# Altium schematic symbol library DSP_Microchip_DSPIC33.SchLib: 19 symbols
Pins are listed as number, name and electrical type; pins without a type are passive.

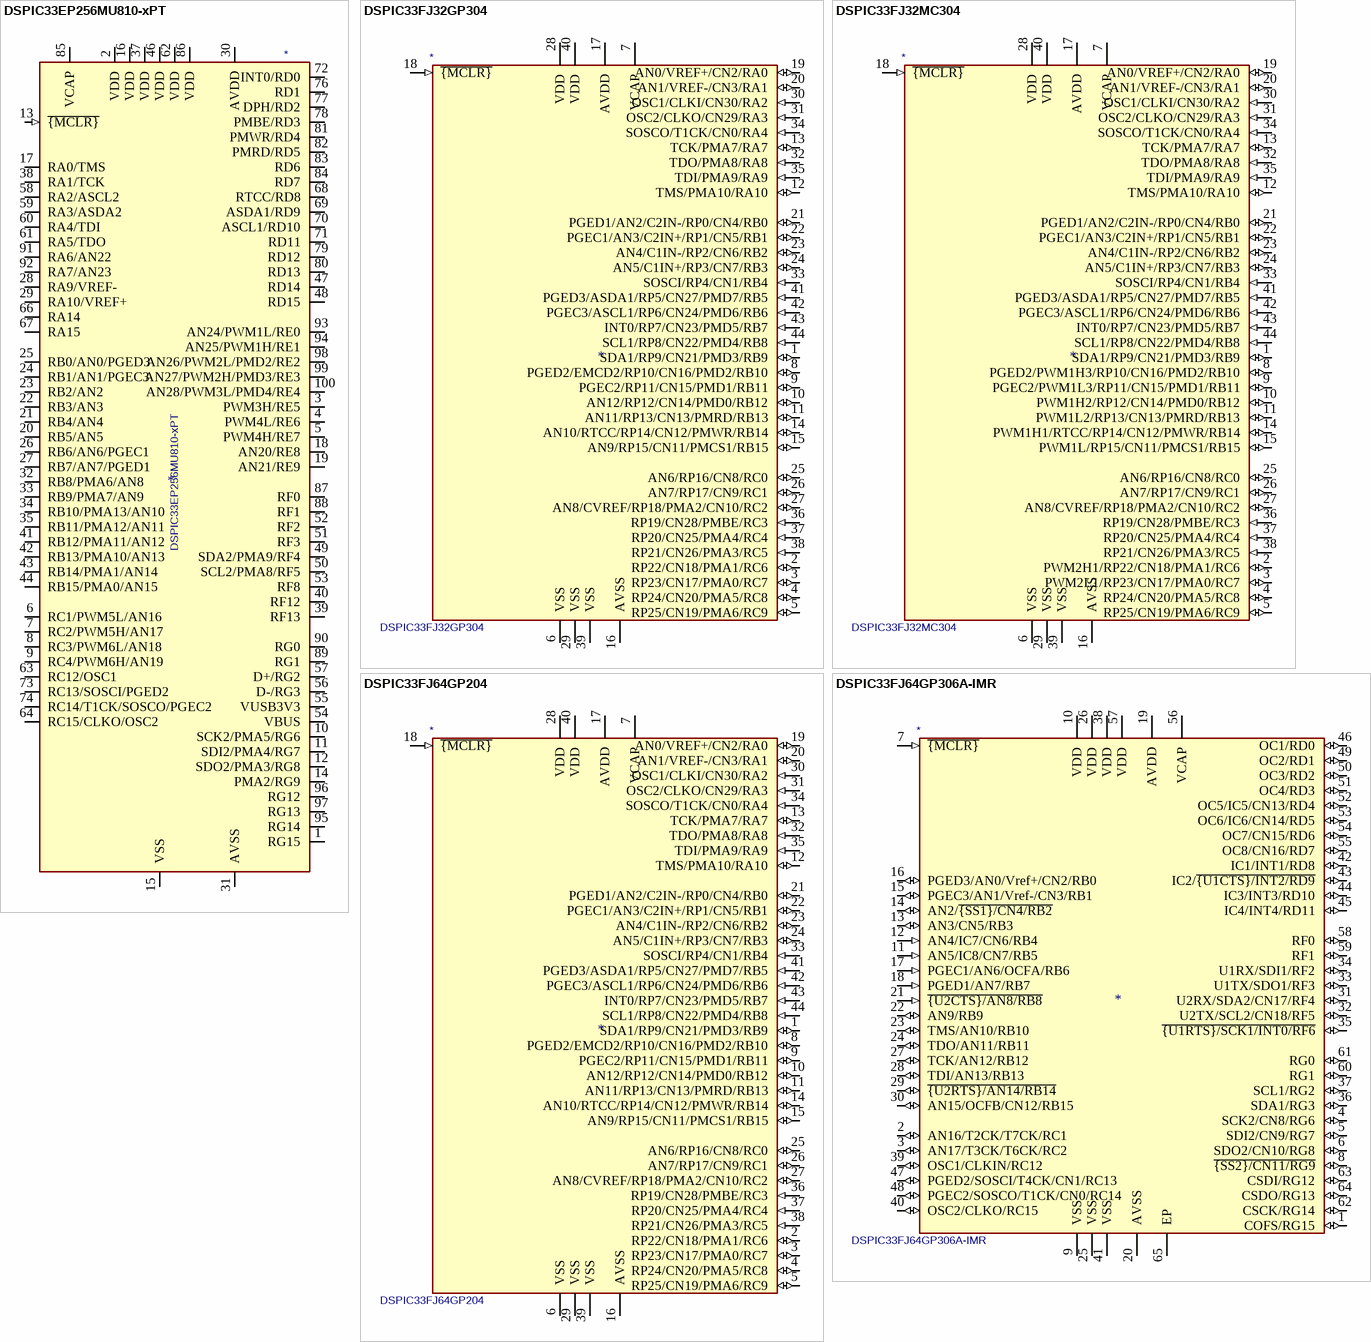
[diagram p0: symbols DSPIC33EP256MU810-xPT to DSPIC33FJ64GP306A-IMR]

## DSPIC33EP256MU810-xPT
designator *  value DSPIC33EP256MU810-xPT
ki_keywords: 16-bit Digital Signal Controller Microchip dsPIC; ki_description: High-Performance, 16-bit Digital Signal Controller, 40MIPS, 256k Flash, 30k SRAM, TQFP-100; ki_fp_filters: TQFP*14x14mm*P0.5mm*; Footprint: Package_QFP:TQFP-100_14x14mm_P0.5mm; Supplier: http://ww1.microchip.com/downloads/en/DeviceDoc/70616g.pdf
footprint TQFP-100_14x14mm_P0.5mm
pins: 1 RG15 (io), 2 VDD (power), 3 PWM3H/RE5 (io), 4 PWM4L/RE6 (io), 5 PWM4H/RE7 (io), 6 RC1/PWM5L/AN16 (io), 7 RC2/PWM5H/AN17 (io), 8 RC3/PWM6L/AN18 (io), 9 RC4/PWM6H/AN19 (io), 10 SCK2/PMA5/RG6 (io), 11 SDI2/PMA4/RG7 (io), 12 SDO2/PMA3/RG8 (io), 13 ~{{MCLR}} (in), 14 PMA2/RG9 (io), 15 VSS (power), 16 VDD (power), 17 RA0/TMS (io), 18 AN20/RE8 (io), 19 AN21/RE9 (io), 20 RB5/AN5 (io), 21 RB4/AN4 (io), 22 RB3/AN3 (io), 23 RB2/AN2 (io), 24 RB1/AN1/PGEC3 (io), 25 RB0/AN0/PGED3 (io), 26 RB6/AN6/PGEC1 (io), 27 RB7/AN7/PGED1 (io), 28 RA9/VREF- (io), 29 RA10/VREF+ (io), 30 AVDD (power), 31 AVSS (power), 32 RB8/PMA6/AN8 (io), 33 RB9/PMA7/AN9 (io), 34 RB10/PMA13/AN10 (io), 35 RB11/PMA12/AN11 (io), 36 VSS hidden, 37 VDD (power), 38 RA1/TCK (io), 39 RF13 (io), 40 RF12 (io), 41 RB12/PMA11/AN12 (io), 42 RB13/PMA10/AN13 (io), 43 RB14/PMA1/AN14 (io), 44 RB15/PMA0/AN15 (io), 45 VSS hidden, 46 VDD (power), 47 RD14 (io), 48 RD15 (io), 49 SDA2/PMA9/RF4 (io), 50 SCL2/PMA8/RF5 (io), 51 RF3 (io), 52 RF2 (io), 53 RF8 (io), 54 VBUS (io), 55 VUSB3V3 (io), 56 D-/RG3 (io), 57 D+/RG2 (io), 58 RA2/ASCL2 (io), 59 RA3/ASDA2 (io), 60 RA4/TDI (io), 61 RA5/TDO (io), 62 VDD (power), 63 RC12/OSC1 (io), 64 RC15/CLKO/OSC2 (io), 65 VSS hidden, 66 RA14 (io), 67 RA15 (io), 68 RTCC/RD8 (io), 69 ASDA1/RD9 (io), 70 ASCL1/RD10 (io), 71 RD11 (io), 72 INT0/RD0 (io), 73 RC13/SOSCI/PGED2 (io), 74 RC14/T1CK/SOSCO/PGEC2 (io), 75 VSS hidden, 76 RD1 (io), 77 DPH/RD2 (io), 78 PMBE/RD3 (io), 79 RD12 (io), 80 RD13 (io), 81 PMWR/RD4 (io), 82 PMRD/RD5 (io), 83 RD6 (io), 84 RD7 (io), 85 VCAP, 86 VDD (power), 87 RF0 (io), 88 RF1 (io), 89 RG1 (io), 90 RG0 (io), 91 RA6/AN22 (io), 92 RA7/AN23 (io), 93 AN24/PWM1L/RE0 (io), 94 AN25/PWM1H/RE1 (io), 95 RG14 (io), 96 RG12 (io), 97 RG13 (io), 98 AN26/PWM2L/PMD2/RE2 (io), 99 AN27/PWM2H/PMD3/RE3 (io), 100 AN28/PWM3L/PMD4/RE4 (io)

## DSPIC33FJ32GP304
designator *  value DSPIC33FJ32GP304
ki_keywords: 16-bit Digital Signal Controller Microchip dsPIC; ki_description: 40MIPS, 32k Flash, 4k SRAM; ki_fp_filters: QFN?44*1EP*8x8mm*P0.65mm* TQFP?44*10x10mm*P0.8mm*; Supplier: http://ww1.microchip.com/downloads/en/DeviceDoc/70292G.pdf
pins: 1 SDA1/RP9/CN21/PMD3/RB9 (io), 2 RP22/CN18/PMA1/RC6 (io), 3 RP23/CN17/PMA0/RC7 (io), 4 RP24/CN20/PMA5/RC8 (io), 5 RP25/CN19/PMA6/RC9 (io), 6 VSS (power), 7 VCAP (power), 8 PGED2/EMCD2/RP10/CN16/PMD2/RB10 (io), 9 PGEC2/RP11/CN15/PMD1/RB11 (io), 10 AN12/RP12/CN14/PMD0/RB12 (io), 11 AN11/RP13/CN13/PMRD/RB13 (io), 12 TMS/PMA10/RA10 (io), 13 TCK/PMA7/RA7 (io), 14 AN10/RTCC/RP14/CN12/PMWR/RB14 (io), 15 AN9/RP15/CN11/PMCS1/RB15 (io), 16 AVSS (power), 17 AVDD (power), 18 ~{{MCLR}} (in), 19 AN0/VREF+/CN2/RA0 (io), 20 AN1/VREF-/CN3/RA1 (io), 21 PGED1/AN2/C2IN-/RP0/CN4/RB0 (io), 22 PGEC1/AN3/C2IN+/RP1/CN5/RB1 (io), 23 AN4/C1IN-/RP2/CN6/RB2 (io), 24 AN5/C1IN+/RP3/CN7/RB3 (io), 25 AN6/RP16/CN8/RC0 (io), 26 AN7/RP17/CN9/RC1 (io), 27 AN8/CVREF/RP18/PMA2/CN10/RC2 (io), 28 VDD (power), 29 VSS (power), 30 OSC1/CLKI/CN30/RA2 (in), 31 OSC2/CLKO/CN29/RA3 (in), 32 TDO/PMA8/RA8 (in), 33 SOSCI/RP4/CN1/RB4 (in), 34 SOSCO/T1CK/CN0/RA4 (in), 35 TDI/PMA9/RA9 (in), 36 RP19/CN28/PMBE/RC3 (in), 37 RP20/CN25/PMA4/RC4 (in), 38 RP21/CN26/PMA3/RC5 (in), 39 VSS (power), 40 VDD (power), 41 PGED3/ASDA1/RP5/CN27/PMD7/RB5 (in), 42 PGEC3/ASCL1/RP6/CN24/PMD6/RB6 (in), 43 INT0/RP7/CN23/PMD5/RB7 (in), 44 SCL1/RP8/CN22/PMD4/RB8 (in)

## DSPIC33FJ32MC304
designator *  value DSPIC33FJ32MC304
ki_keywords: 16-bit Digital Signal Controller Microchip dsPIC Motor Control; ki_description: 40MIPS, 32k Flash, 8k SRAM; ki_fp_filters: QFN?44*1EP*8x8mm*P0.65mm* TQFP?44*10x10mm*P0.8mm*; Supplier: http://ww1.microchip.com/downloads/en/DeviceDoc/70291G.pdf
pins: 1 SDA1/RP9/CN21/PMD3/RB9 (io), 2 PWM2H1/RP22/CN18/PMA1/RC6 (io), 3 PWM2L1/RP23/CN17/PMA0/RC7 (io), 4 RP24/CN20/PMA5/RC8 (io), 5 RP25/CN19/PMA6/RC9 (io), 6 VSS (power), 7 VCAP (power), 8 PGED2/PWM1H3/RP10/CN16/PMD2/RB10 (io), 9 PGEC2/PWM1L3/RP11/CN15/PMD1/RB11 (io), 10 PWM1H2/RP12/CN14/PMD0/RB12 (io), 11 PWM1L2/RP13/CN13/PMRD/RB13 (io), 12 TMS/PMA10/RA10 (io), 13 TCK/PMA7/RA7 (io), 14 PWM1H1/RTCC/RP14/CN12/PMWR/RB14 (io), 15 PWM1L/RP15/CN11/PMCS1/RB15 (io), 16 AVSS (power), 17 AVDD (power), 18 ~{{MCLR}} (in), 19 AN0/VREF+/CN2/RA0 (io), 20 AN1/VREF-/CN3/RA1 (io), 21 PGED1/AN2/C2IN-/RP0/CN4/RB0 (io), 22 PGEC1/AN3/C2IN+/RP1/CN5/RB1 (io), 23 AN4/C1IN-/RP2/CN6/RB2 (io), 24 AN5/C1IN+/RP3/CN7/RB3 (io), 25 AN6/RP16/CN8/RC0 (io), 26 AN7/RP17/CN9/RC1 (io), 27 AN8/CVREF/RP18/PMA2/CN10/RC2 (io), 28 VDD (power), 29 VSS (power), 30 OSC1/CLKI/CN30/RA2 (in), 31 OSC2/CLKO/CN29/RA3 (in), 32 TDO/PMA8/RA8 (in), 33 SOSCI/RP4/CN1/RB4 (in), 34 SOSCO/T1CK/CN0/RA4 (in), 35 TDI/PMA9/RA9 (in), 36 RP19/CN28/PMBE/RC3 (in), 37 RP20/CN25/PMA4/RC4 (in), 38 RP21/CN26/PMA3/RC5 (in), 39 VSS (power), 40 VDD (power), 41 PGED3/ASDA1/RP5/CN27/PMD7/RB5 (in), 42 PGEC3/ASCL1/RP6/CN24/PMD6/RB6 (in), 43 INT0/RP7/CN23/PMD5/RB7 (in), 44 SCL1/RP8/CN22/PMD4/RB8 (in)

## DSPIC33FJ64GP204
designator *  value DSPIC33FJ64GP204
ki_keywords: 16-bit Digital Signal Controller Microchip dsPIC; ki_description: 40MIPS, 64k Flash, 8k SRAM; ki_fp_filters: QFN?44*1EP*8x8mm*P0.65mm* TQFP?44*10x10mm*P0.8mm*; Supplier: http://ww1.microchip.com/downloads/en/DeviceDoc/70292G.pdf
pins: 1 SDA1/RP9/CN21/PMD3/RB9 (io), 2 RP22/CN18/PMA1/RC6 (io), 3 RP23/CN17/PMA0/RC7 (io), 4 RP24/CN20/PMA5/RC8 (io), 5 RP25/CN19/PMA6/RC9 (io), 6 VSS (power), 7 VCAP (power), 8 PGED2/EMCD2/RP10/CN16/PMD2/RB10 (io), 9 PGEC2/RP11/CN15/PMD1/RB11 (io), 10 AN12/RP12/CN14/PMD0/RB12 (io), 11 AN11/RP13/CN13/PMRD/RB13 (io), 12 TMS/PMA10/RA10 (io), 13 TCK/PMA7/RA7 (io), 14 AN10/RTCC/RP14/CN12/PMWR/RB14 (io), 15 AN9/RP15/CN11/PMCS1/RB15 (io), 16 AVSS (power), 17 AVDD (power), 18 ~{{MCLR}} (in), 19 AN0/VREF+/CN2/RA0 (io), 20 AN1/VREF-/CN3/RA1 (io), 21 PGED1/AN2/C2IN-/RP0/CN4/RB0 (io), 22 PGEC1/AN3/C2IN+/RP1/CN5/RB1 (io), 23 AN4/C1IN-/RP2/CN6/RB2 (io), 24 AN5/C1IN+/RP3/CN7/RB3 (io), 25 AN6/RP16/CN8/RC0 (io), 26 AN7/RP17/CN9/RC1 (io), 27 AN8/CVREF/RP18/PMA2/CN10/RC2 (io), 28 VDD (power), 29 VSS (power), 30 OSC1/CLKI/CN30/RA2 (in), 31 OSC2/CLKO/CN29/RA3 (in), 32 TDO/PMA8/RA8 (in), 33 SOSCI/RP4/CN1/RB4 (in), 34 SOSCO/T1CK/CN0/RA4 (in), 35 TDI/PMA9/RA9 (in), 36 RP19/CN28/PMBE/RC3 (in), 37 RP20/CN25/PMA4/RC4 (in), 38 RP21/CN26/PMA3/RC5 (in), 39 VSS (power), 40 VDD (power), 41 PGED3/ASDA1/RP5/CN27/PMD7/RB5 (in), 42 PGEC3/ASCL1/RP6/CN24/PMD6/RB6 (in), 43 INT0/RP7/CN23/PMD5/RB7 (in), 44 SCL1/RP8/CN22/PMD4/RB8 (in)

## DSPIC33FJ64GP306A-IMR
designator *  value DSPIC33FJ64GP306A-IMR
ki_keywords: 16-bit Digital Signal Controller Microchip dsPIC; ki_description: 40MIPS, 64k Flash, 16k SRAM, QFN-64; ki_fp_filters: QFN*9x9mm*P0.5mm*; Footprint: Package_DFN_QFN:QFN-64-1EP_9x9mm_P0.5mm_EP5.4x5.4mm; Supplier: http://ww1.microchip.com/downloads/en/DeviceDoc/70593d.pdf
footprint QFN-64-1EP_9x9mm_P0.5mm_EP5.4x5.4mm
pins: 1 COFS/RG15 (io), 2 AN16/T2CK/T7CK/RC1 (io), 3 AN17/T3CK/T6CK/RC2 (io), 4 SCK2/CN8/RG6 (io), 5 SDI2/CN9/RG7 (io), 6 SDO2/CN10/RG8 (io), 7 ~{{MCLR}} (in), 8 ~{{SS2}/CN11/RG9} (io), 9 VSS (power), 10 VDD (power), 11 AN5/IC8/CN7/RB5 (in), 12 AN4/IC7/CN6/RB4 (in), 13 AN3/CN5/RB3 (io), 14 AN2/~{{SS1}/CN4/RB2} (io), 15 PGEC3/AN1/Vref-/CN3/RB1 (io), 16 PGED3/AN0/Vref+/CN2/RB0 (io), 17 PGEC1/AN6/OCFA/RB6 (in), 18 PGED1/AN7/RB7 (in), 19 AVDD (power), 20 AVSS (power), 21 ~{{U2CTS}/AN8/RB8} (in), 22 AN9/RB9 (io), 23 TMS/AN10/RB10 (io), 24 TDO/AN11/RB11 (io), 25 VSS (power), 26 VDD (power), 27 TCK/AN12/RB12 (io), 28 TDI/AN13/RB13 (io), 29 ~{{U2RTS}/AN14/RB14} (io), 30 AN15/OCFB/CN12/RB15 (io), 31 U2RX/SDA2/CN17/RF4 (io), 32 U2TX/SCL2/CN18/RF5 (io), 33 U1TX/SDO1/RF3 (io), 34 U1RX/SDI1/RF2 (io), 35 ~{{U1RTS}/SCK1/INT0/RF6} (io), 36 SDA1/RG3 (io), 37 SCL1/RG2 (io), 38 VDD (power), 39 OSC1/CLKIN/RC12 (io), 40 OSC2/CLKO/RC15 (io), 41 VSS (power), 42 IC1/INT1/RD8 (io), 43 IC2/~{{U1CTS}/INT2/RD9} (io), 44 IC3/INT3/RD10 (io), 45 IC4/INT4/RD11 (io), 46 OC1/RD0 (io), 47 PGED2/SOSCI/T4CK/CN1/RC13 (io), 48 PGEC2/SOSCO/T1CK/CN0/RC14 (io), 49 OC2/RD1 (io), 50 OC3/RD2 (io), 51 OC4/RD3 (io), 52 OC5/IC5/CN13/RD4 (io), 53 OC6/IC6/CN14/RD5 (io), 54 OC7/CN15/RD6 (io), 55 OC8/CN16/RD7 (io), 56 VCAP (power), 57 VDD (power), 58 RF0 (io), 59 RF1 (io), 60 RG1 (io), 61 RG0 (io), 62 CSCK/RG14 (io), 63 CSDI/RG12 (io), 64 CSDO/RG13 (io), 65 EP (power)

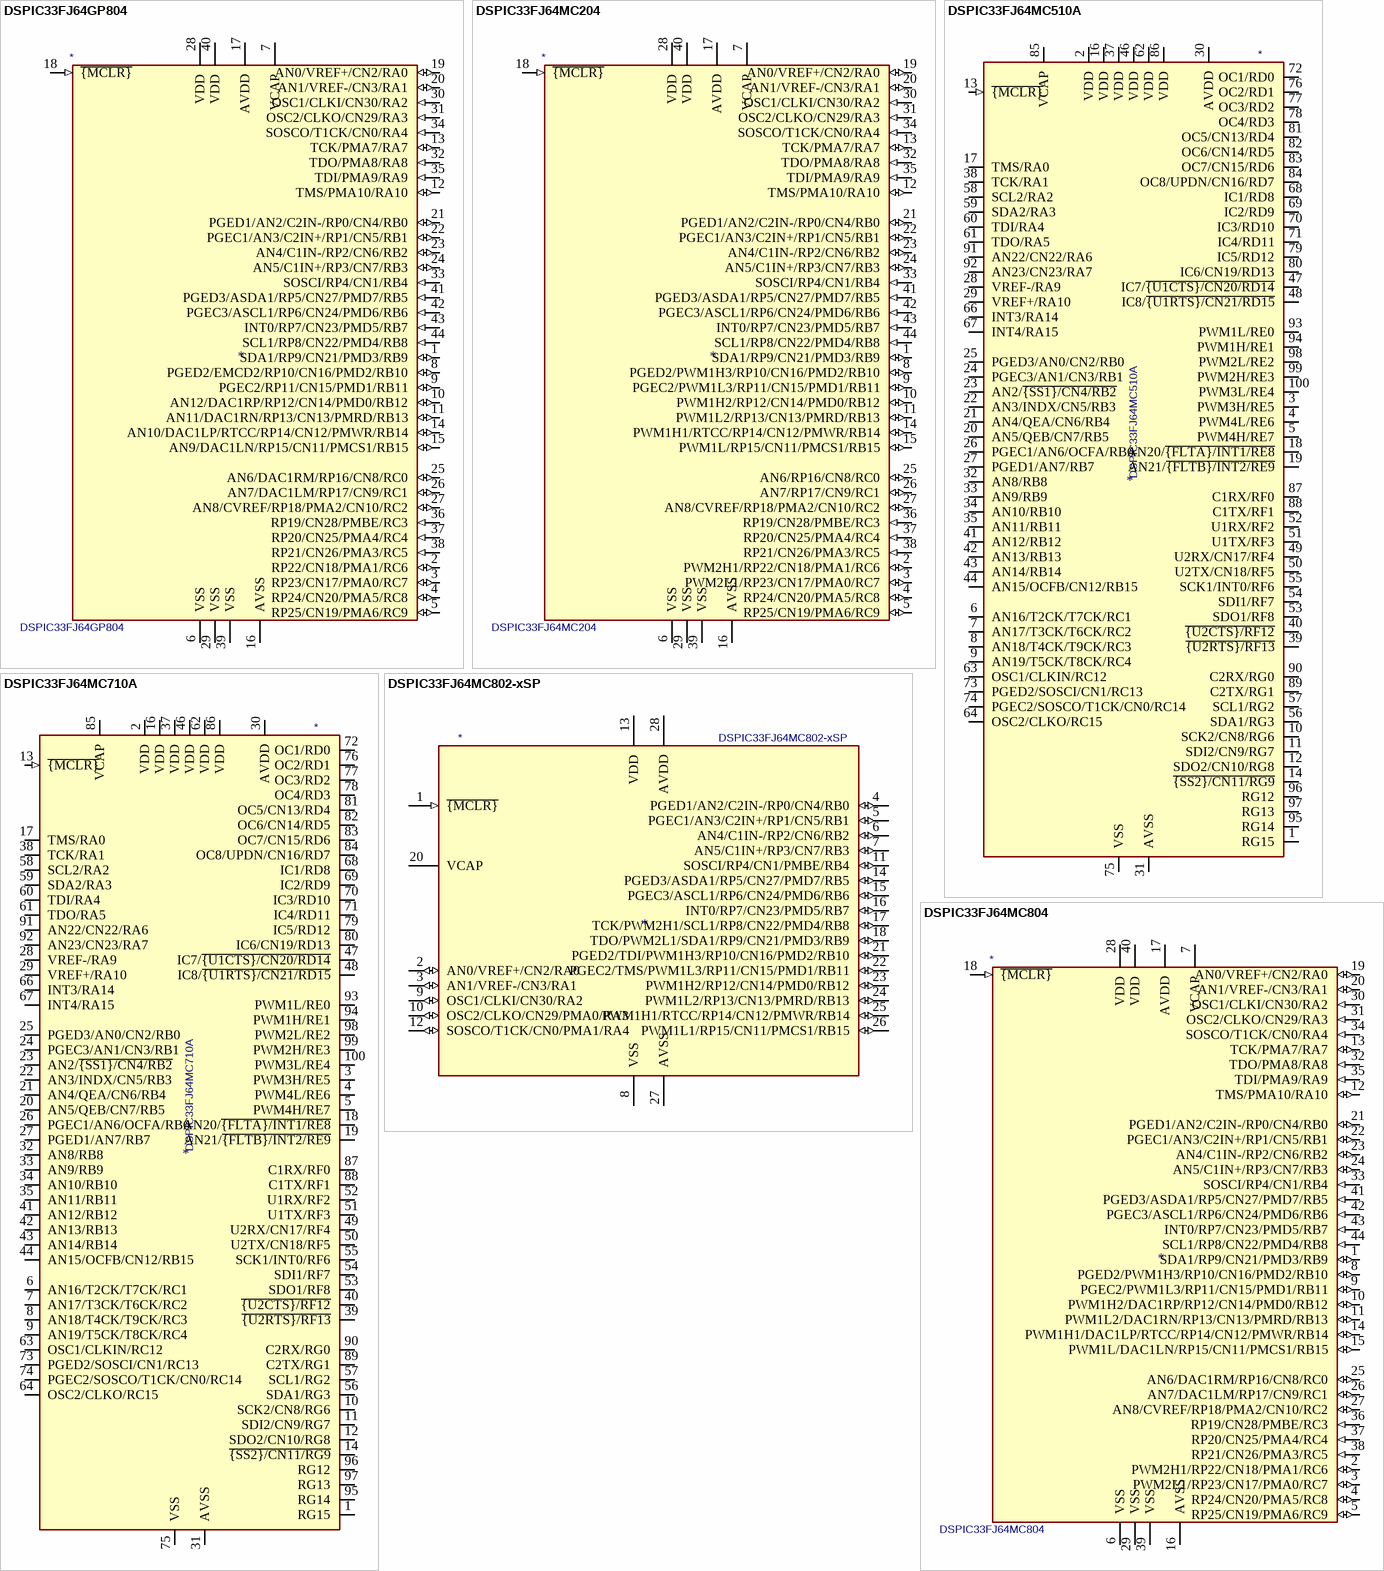
[diagram p1: symbols DSPIC33FJ64GP804 to DSPIC33FJ64MC804]

## DSPIC33FJ64GP804
designator *  value DSPIC33FJ64GP804
ki_keywords: 16-bit Digital Signal Controller Microchip dsPIC33; ki_description: 40MIPS, 64k Flash, 16k SRAM, ECAN, Audio DAC; ki_fp_filters: QFN?44*1EP*8x8mm*P0.65mm* TQFP?44*10x10mm*P0.8mm*; Supplier: http://ww1.microchip.com/downloads/en/DeviceDoc/70292G.pdf
pins: 1 SDA1/RP9/CN21/PMD3/RB9 (io), 2 RP22/CN18/PMA1/RC6 (io), 3 RP23/CN17/PMA0/RC7 (io), 4 RP24/CN20/PMA5/RC8 (io), 5 RP25/CN19/PMA6/RC9 (io), 6 VSS (power), 7 VCAP (power), 8 PGED2/EMCD2/RP10/CN16/PMD2/RB10 (io), 9 PGEC2/RP11/CN15/PMD1/RB11 (io), 10 AN12/DAC1RP/RP12/CN14/PMD0/RB12 (io), 11 AN11/DAC1RN/RP13/CN13/PMRD/RB13 (io), 12 TMS/PMA10/RA10 (io), 13 TCK/PMA7/RA7 (io), 14 AN10/DAC1LP/RTCC/RP14/CN12/PMWR/RB14 (io), 15 AN9/DAC1LN/RP15/CN11/PMCS1/RB15 (io), 16 AVSS (power), 17 AVDD (power), 18 ~{{MCLR}} (in), 19 AN0/VREF+/CN2/RA0 (io), 20 AN1/VREF-/CN3/RA1 (io), 21 PGED1/AN2/C2IN-/RP0/CN4/RB0 (io), 22 PGEC1/AN3/C2IN+/RP1/CN5/RB1 (io), 23 AN4/C1IN-/RP2/CN6/RB2 (io), 24 AN5/C1IN+/RP3/CN7/RB3 (io), 25 AN6/DAC1RM/RP16/CN8/RC0 (io), 26 AN7/DAC1LM/RP17/CN9/RC1 (io), 27 AN8/CVREF/RP18/PMA2/CN10/RC2 (io), 28 VDD (power), 29 VSS (power), 30 OSC1/CLKI/CN30/RA2 (in), 31 OSC2/CLKO/CN29/RA3 (in), 32 TDO/PMA8/RA8 (in), 33 SOSCI/RP4/CN1/RB4 (in), 34 SOSCO/T1CK/CN0/RA4 (in), 35 TDI/PMA9/RA9 (in), 36 RP19/CN28/PMBE/RC3 (in), 37 RP20/CN25/PMA4/RC4 (in), 38 RP21/CN26/PMA3/RC5 (in), 39 VSS (power), 40 VDD (power), 41 PGED3/ASDA1/RP5/CN27/PMD7/RB5 (in), 42 PGEC3/ASCL1/RP6/CN24/PMD6/RB6 (in), 43 INT0/RP7/CN23/PMD5/RB7 (in), 44 SCL1/RP8/CN22/PMD4/RB8 (in)

## DSPIC33FJ64MC204
designator *  value DSPIC33FJ64MC204
ki_keywords: 16-bit Digital Signal Controller Microchip dsPIC Motor Control; ki_description: 40MIPS, 64k Flash, 8k SRAM; ki_fp_filters: QFN?44*1EP*8x8mm*P0.65mm* TQFP?44*10x10mm*P0.8mm*; Supplier: http://ww1.microchip.com/downloads/en/DeviceDoc/70291G.pdf
pins: 1 SDA1/RP9/CN21/PMD3/RB9 (io), 2 PWM2H1/RP22/CN18/PMA1/RC6 (io), 3 PWM2L1/RP23/CN17/PMA0/RC7 (io), 4 RP24/CN20/PMA5/RC8 (io), 5 RP25/CN19/PMA6/RC9 (io), 6 VSS (power), 7 VCAP (power), 8 PGED2/PWM1H3/RP10/CN16/PMD2/RB10 (io), 9 PGEC2/PWM1L3/RP11/CN15/PMD1/RB11 (io), 10 PWM1H2/RP12/CN14/PMD0/RB12 (io), 11 PWM1L2/RP13/CN13/PMRD/RB13 (io), 12 TMS/PMA10/RA10 (io), 13 TCK/PMA7/RA7 (io), 14 PWM1H1/RTCC/RP14/CN12/PMWR/RB14 (io), 15 PWM1L/RP15/CN11/PMCS1/RB15 (io), 16 AVSS (power), 17 AVDD (power), 18 ~{{MCLR}} (in), 19 AN0/VREF+/CN2/RA0 (io), 20 AN1/VREF-/CN3/RA1 (io), 21 PGED1/AN2/C2IN-/RP0/CN4/RB0 (io), 22 PGEC1/AN3/C2IN+/RP1/CN5/RB1 (io), 23 AN4/C1IN-/RP2/CN6/RB2 (io), 24 AN5/C1IN+/RP3/CN7/RB3 (io), 25 AN6/RP16/CN8/RC0 (io), 26 AN7/RP17/CN9/RC1 (io), 27 AN8/CVREF/RP18/PMA2/CN10/RC2 (io), 28 VDD (power), 29 VSS (power), 30 OSC1/CLKI/CN30/RA2 (in), 31 OSC2/CLKO/CN29/RA3 (in), 32 TDO/PMA8/RA8 (in), 33 SOSCI/RP4/CN1/RB4 (in), 34 SOSCO/T1CK/CN0/RA4 (in), 35 TDI/PMA9/RA9 (in), 36 RP19/CN28/PMBE/RC3 (in), 37 RP20/CN25/PMA4/RC4 (in), 38 RP21/CN26/PMA3/RC5 (in), 39 VSS (power), 40 VDD (power), 41 PGED3/ASDA1/RP5/CN27/PMD7/RB5 (in), 42 PGEC3/ASCL1/RP6/CN24/PMD6/RB6 (in), 43 INT0/RP7/CN23/PMD5/RB7 (in), 44 SCL1/RP8/CN22/PMD4/RB8 (in)

## DSPIC33FJ64MC510A
designator *  value DSPIC33FJ64MC510A
ki_keywords: 16-bit Digital Signal Controller Microchip dsPIC; ki_description: High-Performance, 16-bit Digital Signal Controller, 40MIPS, 64k Flash, 8k SRAM, TQFP-100; ki_fp_filters: TQFP*12x12mm*P0.4mm* TQFP*14x14mm*P0.5mm*; Supplier: http://ww1.microchip.com/downloads/en/DeviceDoc/70594C.pdf
pins: 1 RG15 (io), 2 VDD (power), 3 PWM3H/RE5 (io), 4 PWM4L/RE6 (io), 5 PWM4H/RE7 (io), 6 AN16/T2CK/T7CK/RC1 (io), 7 AN17/T3CK/T6CK/RC2 (io), 8 AN18/T4CK/T9CK/RC3 (io), 9 AN19/T5CK/T8CK/RC4 (io), 10 SCK2/CN8/RG6 (io), 11 SDI2/CN9/RG7 (io), 12 SDO2/CN10/RG8 (io), 13 ~{{MCLR}} (in), 14 ~{{SS2}/CN11/RG9} (io), 15 VSS (power) hidden, 16 VDD (power), 17 TMS/RA0 (io), 18 AN20/~{{FLTA}/INT1/RE8} (io), 19 AN21/~{{FLTB}/INT2/RE9} (io), 20 AN5/QEB/CN7/RB5 (io), 21 AN4/QEA/CN6/RB4 (io), 22 AN3/INDX/CN5/RB3 (io), 23 AN2/~{{SS1}/CN4/RB2} (io), 24 PGEC3/AN1/CN3/RB1 (io), 25 PGED3/AN0/CN2/RB0 (io), 26 PGEC1/AN6/OCFA/RB6 (io), 27 PGED1/AN7/RB7 (io), 28 VREF-/RA9 (io), 29 VREF+/RA10 (io), 30 AVDD (power), 31 AVSS (power), 32 AN8/RB8 (io), 33 AN9/RB9 (io), 34 AN10/RB10 (io), 35 AN11/RB11 (io), 36 VSS (power) hidden, 37 VDD (power), 38 TCK/RA1 (io), 39 ~{{U2RTS}/RF13} (io), 40 ~{{U2CTS}/RF12} (io), 41 AN12/RB12 (io), 42 AN13/RB13 (io), 43 AN14/RB14 (io), 44 AN15/OCFB/CN12/RB15 (io), 45 VSS (power) hidden, 46 VDD (power), 47 IC7/~{{U1CTS}/CN20/RD14} (io), 48 IC8/~{{U1RTS}/CN21/RD15} (io), 49 U2RX/CN17/RF4 (io), 50 U2TX/CN18/RF5 (io), 51 U1TX/RF3 (io), 52 U1RX/RF2 (io), 53 SDO1/RF8 (io), 54 SDI1/RF7 (io), 55 SCK1/INT0/RF6 (io), 56 SDA1/RG3 (io), 57 SCL1/RG2 (io), 58 SCL2/RA2 (io), 59 SDA2/RA3 (io), 60 TDI/RA4 (io), 61 TDO/RA5 (io), 62 VDD (power), 63 OSC1/CLKIN/RC12 (io), 64 OSC2/CLKO/RC15 (io), 65 VSS (power) hidden, 66 INT3/RA14 (io), 67 INT4/RA15 (io), 68 IC1/RD8 (io), 69 IC2/RD9 (io), 70 IC3/RD10 (io), 71 IC4/RD11 (io), 72 OC1/RD0 (io), 73 PGED2/SOSCI/CN1/RC13 (io), 74 PGEC2/SOSCO/T1CK/CN0/RC14 (io), 75 VSS (power), 76 OC2/RD1 (io), 77 OC3/RD2 (io), 78 OC4/RD3 (io), 79 IC5/RD12 (io), 80 IC6/CN19/RD13 (io), 81 OC5/CN13/RD4 (io), 82 OC6/CN14/RD5 (io), 83 OC7/CN15/RD6 (io), 84 OC8/UPDN/CN16/RD7 (io), 85 VCAP, 86 VDD (power), 87 C1RX/RF0 (io), 88 C1TX/RF1 (io), 89 C2TX/RG1 (io), 90 C2RX/RG0 (io), 91 AN22/CN22/RA6 (io), 92 AN23/CN23/RA7 (io), 93 PWM1L/RE0 (io), 94 PWM1H/RE1 (io), 95 RG14 (io), 96 RG12 (io), 97 RG13 (io), 98 PWM2L/RE2 (io), 99 PWM2H/RE3 (io), 100 PWM3L/RE4 (io)

## DSPIC33FJ64MC710A
designator *  value DSPIC33FJ64MC710A
ki_keywords: 16-bit Digital Signal Controller Microchip dsPIC; ki_description: High-Performance, 16-bit Digital Signal Controller, 40MIPS, 64k Flash, 16k SRAM, TQFP-100; ki_fp_filters: TQFP*12x12mm*P0.4mm* TQFP*14x14mm*P0.5mm*; Supplier: http://ww1.microchip.com/downloads/en/DeviceDoc/70594C.pdf
pins: 1 RG15 (io), 2 VDD (power), 3 PWM3H/RE5 (io), 4 PWM4L/RE6 (io), 5 PWM4H/RE7 (io), 6 AN16/T2CK/T7CK/RC1 (io), 7 AN17/T3CK/T6CK/RC2 (io), 8 AN18/T4CK/T9CK/RC3 (io), 9 AN19/T5CK/T8CK/RC4 (io), 10 SCK2/CN8/RG6 (io), 11 SDI2/CN9/RG7 (io), 12 SDO2/CN10/RG8 (io), 13 ~{{MCLR}} (in), 14 ~{{SS2}/CN11/RG9} (io), 15 VSS (power) hidden, 16 VDD (power), 17 TMS/RA0 (io), 18 AN20/~{{FLTA}/INT1/RE8} (io), 19 AN21/~{{FLTB}/INT2/RE9} (io), 20 AN5/QEB/CN7/RB5 (io), 21 AN4/QEA/CN6/RB4 (io), 22 AN3/INDX/CN5/RB3 (io), 23 AN2/~{{SS1}/CN4/RB2} (io), 24 PGEC3/AN1/CN3/RB1 (io), 25 PGED3/AN0/CN2/RB0 (io), 26 PGEC1/AN6/OCFA/RB6 (io), 27 PGED1/AN7/RB7 (io), 28 VREF-/RA9 (io), 29 VREF+/RA10 (io), 30 AVDD (power), 31 AVSS (power), 32 AN8/RB8 (io), 33 AN9/RB9 (io), 34 AN10/RB10 (io), 35 AN11/RB11 (io), 36 VSS (power) hidden, 37 VDD (power), 38 TCK/RA1 (io), 39 ~{{U2RTS}/RF13} (io), 40 ~{{U2CTS}/RF12} (io), 41 AN12/RB12 (io), 42 AN13/RB13 (io), 43 AN14/RB14 (io), 44 AN15/OCFB/CN12/RB15 (io), 45 VSS (power) hidden, 46 VDD (power), 47 IC7/~{{U1CTS}/CN20/RD14} (io), 48 IC8/~{{U1RTS}/CN21/RD15} (io), 49 U2RX/CN17/RF4 (io), 50 U2TX/CN18/RF5 (io), 51 U1TX/RF3 (io), 52 U1RX/RF2 (io), 53 SDO1/RF8 (io), 54 SDI1/RF7 (io), 55 SCK1/INT0/RF6 (io), 56 SDA1/RG3 (io), 57 SCL1/RG2 (io), 58 SCL2/RA2 (io), 59 SDA2/RA3 (io), 60 TDI/RA4 (io), 61 TDO/RA5 (io), 62 VDD (power), 63 OSC1/CLKIN/RC12 (io), 64 OSC2/CLKO/RC15 (io), 65 VSS (power) hidden, 66 INT3/RA14 (io), 67 INT4/RA15 (io), 68 IC1/RD8 (io), 69 IC2/RD9 (io), 70 IC3/RD10 (io), 71 IC4/RD11 (io), 72 OC1/RD0 (io), 73 PGED2/SOSCI/CN1/RC13 (io), 74 PGEC2/SOSCO/T1CK/CN0/RC14 (io), 75 VSS (power), 76 OC2/RD1 (io), 77 OC3/RD2 (io), 78 OC4/RD3 (io), 79 IC5/RD12 (io), 80 IC6/CN19/RD13 (io), 81 OC5/CN13/RD4 (io), 82 OC6/CN14/RD5 (io), 83 OC7/CN15/RD6 (io), 84 OC8/UPDN/CN16/RD7 (io), 85 VCAP, 86 VDD (power), 87 C1RX/RF0 (io), 88 C1TX/RF1 (io), 89 C2TX/RG1 (io), 90 C2RX/RG0 (io), 91 AN22/CN22/RA6 (io), 92 AN23/CN23/RA7 (io), 93 PWM1L/RE0 (io), 94 PWM1H/RE1 (io), 95 RG14 (io), 96 RG12 (io), 97 RG13 (io), 98 PWM2L/RE2 (io), 99 PWM2H/RE3 (io), 100 PWM3L/RE4 (io)

## DSPIC33FJ64MC802-xSP
designator *  value DSPIC33FJ64MC802-xSP
ki_keywords: 16-bit Digital Signal Controller Microchip dsPIC; ki_description: 40 MIPS, 64k Flash, 16k SRAM, DIP-28; ki_fp_filters: DIP*W7.62mm*; Footprint: Package_DIP:DIP-28_W7.62mm; Supplier: http://ww1.microchip.com/downloads/en/DeviceDoc/70291G.pdf
footprint DIP-28_W7.62mm
pins: 1 ~{{MCLR}} (in), 2 AN0/VREF+/CN2/RA0 (io), 3 AN1/VREF-/CN3/RA1 (io), 4 PGED1/AN2/C2IN-/RP0/CN4/RB0 (io), 5 PGEC1/AN3/C2IN+/RP1/CN5/RB1 (io), 6 AN4/C1IN-/RP2/CN6/RB2 (io), 7 AN5/C1IN+/RP3/CN7/RB3 (io), 8 VSS (power), 9 OSC1/CLKI/CN30/RA2 (io), 10 OSC2/CLKO/CN29/PMA0/RA3 (io), 11 SOSCI/RP4/CN1/PMBE/RB4 (io), 12 SOSCO/T1CK/CN0/PMA1/RA4 (io), 13 VDD (power), 14 PGED3/ASDA1/RP5/CN27/PMD7/RB5 (io), 15 PGEC3/ASCL1/RP6/CN24/PMD6/RB6 (io), 16 INT0/RP7/CN23/PMD5/RB7 (io), 17 TCK/PWM2H1/SCL1/RP8/CN22/PMD4/RB8 (io), 18 TDO/PWM2L1/SDA1/RP9/CN21/PMD3/RB9 (io), 19 VSS hidden, 20 VCAP, 21 PGED2/TDI/PWM1H3/RP10/CN16/PMD2/RB10 (io), 22 PGEC2/TMS/PWM1L3/RP11/CN15/PMD1/RB11 (io), 23 PWM1H2/RP12/CN14/PMD0/RB12 (io), 24 PWM1L2/RP13/CN13/PMRD/RB13 (io), 25 PWM1H1/RTCC/RP14/CN12/PMWR/RB14 (io), 26 PWM1L1/RP15/CN11/PMCS1/RB15 (io), 27 AVSS (power), 28 AVDD (power)

## DSPIC33FJ64MC804
designator *  value DSPIC33FJ64MC804
ki_keywords: 16-bit Digital Signal Controller Microchip dsPIC Motor Control; ki_description: 40MIPS, 64k Flash, 16k SRAM, ECAN, 16-bit DAC; ki_fp_filters: QFN?44*1EP*8x8mm*P0.65mm* TQFP?44*10x10mm*P0.8mm*; Supplier: http://ww1.microchip.com/downloads/en/DeviceDoc/70291G.pdf
pins: 1 SDA1/RP9/CN21/PMD3/RB9 (io), 2 PWM2H1/RP22/CN18/PMA1/RC6 (io), 3 PWM2L1/RP23/CN17/PMA0/RC7 (io), 4 RP24/CN20/PMA5/RC8 (io), 5 RP25/CN19/PMA6/RC9 (io), 6 VSS (power), 7 VCAP (power), 8 PGED2/PWM1H3/RP10/CN16/PMD2/RB10 (io), 9 PGEC2/PWM1L3/RP11/CN15/PMD1/RB11 (io), 10 PWM1H2/DAC1RP/RP12/CN14/PMD0/RB12 (io), 11 PWM1L2/DAC1RN/RP13/CN13/PMRD/RB13 (io), 12 TMS/PMA10/RA10 (io), 13 TCK/PMA7/RA7 (io), 14 PWM1H1/DAC1LP/RTCC/RP14/CN12/PMWR/RB14 (io), 15 PWM1L/DAC1LN/RP15/CN11/PMCS1/RB15 (io), 16 AVSS (power), 17 AVDD (power), 18 ~{{MCLR}} (in), 19 AN0/VREF+/CN2/RA0 (io), 20 AN1/VREF-/CN3/RA1 (io), 21 PGED1/AN2/C2IN-/RP0/CN4/RB0 (io), 22 PGEC1/AN3/C2IN+/RP1/CN5/RB1 (io), 23 AN4/C1IN-/RP2/CN6/RB2 (io), 24 AN5/C1IN+/RP3/CN7/RB3 (io), 25 AN6/DAC1RM/RP16/CN8/RC0 (io), 26 AN7/DAC1LM/RP17/CN9/RC1 (io), 27 AN8/CVREF/RP18/PMA2/CN10/RC2 (io), 28 VDD (power), 29 VSS (power), 30 OSC1/CLKI/CN30/RA2 (in), 31 OSC2/CLKO/CN29/RA3 (in), 32 TDO/PMA8/RA8 (in), 33 SOSCI/RP4/CN1/RB4 (in), 34 SOSCO/T1CK/CN0/RA4 (in), 35 TDI/PMA9/RA9 (in), 36 RP19/CN28/PMBE/RC3 (in), 37 RP20/CN25/PMA4/RC4 (in), 38 RP21/CN26/PMA3/RC5 (in), 39 VSS (power), 40 VDD (power), 41 PGED3/ASDA1/RP5/CN27/PMD7/RB5 (in), 42 PGEC3/ASCL1/RP6/CN24/PMD6/RB6 (in), 43 INT0/RP7/CN23/PMD5/RB7 (in), 44 SCL1/RP8/CN22/PMD4/RB8 (in)

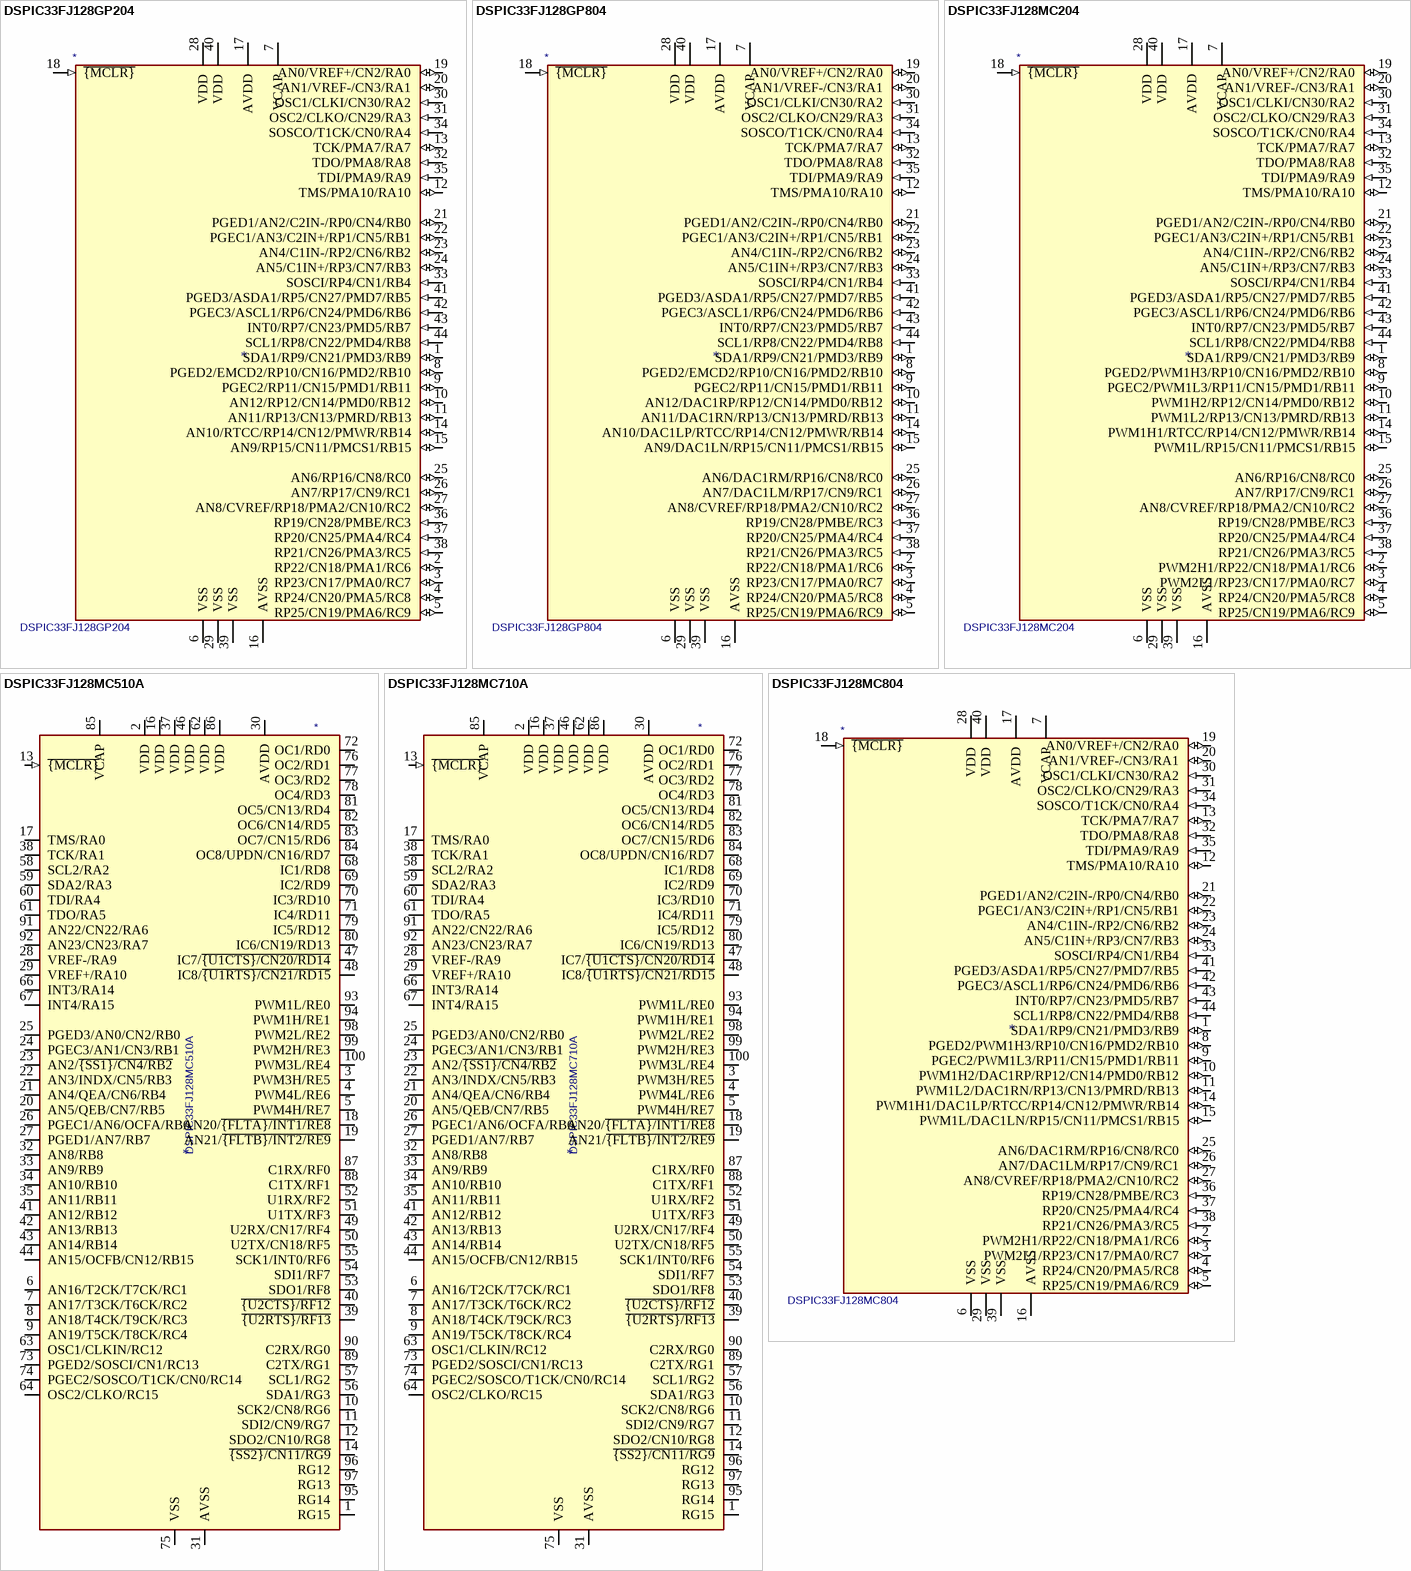
[diagram p2: symbols DSPIC33FJ128GP204 to DSPIC33FJ128MC804]

## DSPIC33FJ128GP204
designator *  value DSPIC33FJ128GP204
ki_keywords: 16-bit Digital Signal Controller Microchip dsPIC; ki_description: 40MIPS, 128k Flash, 8k SRAM; ki_fp_filters: QFN?44*1EP*8x8mm*P0.65mm* TQFP?44*10x10mm*P0.8mm*; Supplier: http://ww1.microchip.com/downloads/en/DeviceDoc/70292G.pdf
pins: 1 SDA1/RP9/CN21/PMD3/RB9 (io), 2 RP22/CN18/PMA1/RC6 (io), 3 RP23/CN17/PMA0/RC7 (io), 4 RP24/CN20/PMA5/RC8 (io), 5 RP25/CN19/PMA6/RC9 (io), 6 VSS (power), 7 VCAP (power), 8 PGED2/EMCD2/RP10/CN16/PMD2/RB10 (io), 9 PGEC2/RP11/CN15/PMD1/RB11 (io), 10 AN12/RP12/CN14/PMD0/RB12 (io), 11 AN11/RP13/CN13/PMRD/RB13 (io), 12 TMS/PMA10/RA10 (io), 13 TCK/PMA7/RA7 (io), 14 AN10/RTCC/RP14/CN12/PMWR/RB14 (io), 15 AN9/RP15/CN11/PMCS1/RB15 (io), 16 AVSS (power), 17 AVDD (power), 18 ~{{MCLR}} (in), 19 AN0/VREF+/CN2/RA0 (io), 20 AN1/VREF-/CN3/RA1 (io), 21 PGED1/AN2/C2IN-/RP0/CN4/RB0 (io), 22 PGEC1/AN3/C2IN+/RP1/CN5/RB1 (io), 23 AN4/C1IN-/RP2/CN6/RB2 (io), 24 AN5/C1IN+/RP3/CN7/RB3 (io), 25 AN6/RP16/CN8/RC0 (io), 26 AN7/RP17/CN9/RC1 (io), 27 AN8/CVREF/RP18/PMA2/CN10/RC2 (io), 28 VDD (power), 29 VSS (power), 30 OSC1/CLKI/CN30/RA2 (in), 31 OSC2/CLKO/CN29/RA3 (in), 32 TDO/PMA8/RA8 (in), 33 SOSCI/RP4/CN1/RB4 (in), 34 SOSCO/T1CK/CN0/RA4 (in), 35 TDI/PMA9/RA9 (in), 36 RP19/CN28/PMBE/RC3 (in), 37 RP20/CN25/PMA4/RC4 (in), 38 RP21/CN26/PMA3/RC5 (in), 39 VSS (power), 40 VDD (power), 41 PGED3/ASDA1/RP5/CN27/PMD7/RB5 (in), 42 PGEC3/ASCL1/RP6/CN24/PMD6/RB6 (in), 43 INT0/RP7/CN23/PMD5/RB7 (in), 44 SCL1/RP8/CN22/PMD4/RB8 (in)

## DSPIC33FJ128GP804
designator *  value DSPIC33FJ128GP804
ki_keywords: 16-bit Digital Signal Controller Microchip dsPIC; ki_description: 40MIPS, 128k Flash, 16k SRAM, ECAN, Audio DAC; ki_fp_filters: QFN?44*1EP*8x8mm*P0.65mm* TQFP?44*10x10mm*P0.8mm*; Supplier: http://ww1.microchip.com/downloads/en/DeviceDoc/70292G.pdf
pins: 1 SDA1/RP9/CN21/PMD3/RB9 (io), 2 RP22/CN18/PMA1/RC6 (io), 3 RP23/CN17/PMA0/RC7 (io), 4 RP24/CN20/PMA5/RC8 (io), 5 RP25/CN19/PMA6/RC9 (io), 6 VSS (power), 7 VCAP (power), 8 PGED2/EMCD2/RP10/CN16/PMD2/RB10 (io), 9 PGEC2/RP11/CN15/PMD1/RB11 (io), 10 AN12/DAC1RP/RP12/CN14/PMD0/RB12 (io), 11 AN11/DAC1RN/RP13/CN13/PMRD/RB13 (io), 12 TMS/PMA10/RA10 (io), 13 TCK/PMA7/RA7 (io), 14 AN10/DAC1LP/RTCC/RP14/CN12/PMWR/RB14 (io), 15 AN9/DAC1LN/RP15/CN11/PMCS1/RB15 (io), 16 AVSS (power), 17 AVDD (power), 18 ~{{MCLR}} (in), 19 AN0/VREF+/CN2/RA0 (io), 20 AN1/VREF-/CN3/RA1 (io), 21 PGED1/AN2/C2IN-/RP0/CN4/RB0 (io), 22 PGEC1/AN3/C2IN+/RP1/CN5/RB1 (io), 23 AN4/C1IN-/RP2/CN6/RB2 (io), 24 AN5/C1IN+/RP3/CN7/RB3 (io), 25 AN6/DAC1RM/RP16/CN8/RC0 (io), 26 AN7/DAC1LM/RP17/CN9/RC1 (io), 27 AN8/CVREF/RP18/PMA2/CN10/RC2 (io), 28 VDD (power), 29 VSS (power), 30 OSC1/CLKI/CN30/RA2 (in), 31 OSC2/CLKO/CN29/RA3 (in), 32 TDO/PMA8/RA8 (in), 33 SOSCI/RP4/CN1/RB4 (in), 34 SOSCO/T1CK/CN0/RA4 (in), 35 TDI/PMA9/RA9 (in), 36 RP19/CN28/PMBE/RC3 (in), 37 RP20/CN25/PMA4/RC4 (in), 38 RP21/CN26/PMA3/RC5 (in), 39 VSS (power), 40 VDD (power), 41 PGED3/ASDA1/RP5/CN27/PMD7/RB5 (in), 42 PGEC3/ASCL1/RP6/CN24/PMD6/RB6 (in), 43 INT0/RP7/CN23/PMD5/RB7 (in), 44 SCL1/RP8/CN22/PMD4/RB8 (in)

## DSPIC33FJ128MC204
designator *  value DSPIC33FJ128MC204
ki_keywords: 16-bit Digital Signal Controller Microchip dsPIC Motor Control; ki_description: 40MIPS, 128k Flash, 8k SRAM; ki_fp_filters: QFN?44*1EP*8x8mm*P0.65mm* TQFP?44*10x10mm*P0.8mm*; Supplier: http://ww1.microchip.com/downloads/en/DeviceDoc/70291G.pdf
pins: 1 SDA1/RP9/CN21/PMD3/RB9 (io), 2 PWM2H1/RP22/CN18/PMA1/RC6 (io), 3 PWM2L1/RP23/CN17/PMA0/RC7 (io), 4 RP24/CN20/PMA5/RC8 (io), 5 RP25/CN19/PMA6/RC9 (io), 6 VSS (power), 7 VCAP (power), 8 PGED2/PWM1H3/RP10/CN16/PMD2/RB10 (io), 9 PGEC2/PWM1L3/RP11/CN15/PMD1/RB11 (io), 10 PWM1H2/RP12/CN14/PMD0/RB12 (io), 11 PWM1L2/RP13/CN13/PMRD/RB13 (io), 12 TMS/PMA10/RA10 (io), 13 TCK/PMA7/RA7 (io), 14 PWM1H1/RTCC/RP14/CN12/PMWR/RB14 (io), 15 PWM1L/RP15/CN11/PMCS1/RB15 (io), 16 AVSS (power), 17 AVDD (power), 18 ~{{MCLR}} (in), 19 AN0/VREF+/CN2/RA0 (io), 20 AN1/VREF-/CN3/RA1 (io), 21 PGED1/AN2/C2IN-/RP0/CN4/RB0 (io), 22 PGEC1/AN3/C2IN+/RP1/CN5/RB1 (io), 23 AN4/C1IN-/RP2/CN6/RB2 (io), 24 AN5/C1IN+/RP3/CN7/RB3 (io), 25 AN6/RP16/CN8/RC0 (io), 26 AN7/RP17/CN9/RC1 (io), 27 AN8/CVREF/RP18/PMA2/CN10/RC2 (io), 28 VDD (power), 29 VSS (power), 30 OSC1/CLKI/CN30/RA2 (in), 31 OSC2/CLKO/CN29/RA3 (in), 32 TDO/PMA8/RA8 (in), 33 SOSCI/RP4/CN1/RB4 (in), 34 SOSCO/T1CK/CN0/RA4 (in), 35 TDI/PMA9/RA9 (in), 36 RP19/CN28/PMBE/RC3 (in), 37 RP20/CN25/PMA4/RC4 (in), 38 RP21/CN26/PMA3/RC5 (in), 39 VSS (power), 40 VDD (power), 41 PGED3/ASDA1/RP5/CN27/PMD7/RB5 (in), 42 PGEC3/ASCL1/RP6/CN24/PMD6/RB6 (in), 43 INT0/RP7/CN23/PMD5/RB7 (in), 44 SCL1/RP8/CN22/PMD4/RB8 (in)

## DSPIC33FJ128MC510A
designator *  value DSPIC33FJ128MC510A
ki_keywords: 16-bit Digital Signal Controller Microchip dsPIC; ki_description: High-Performance, 16-bit Digital Signal Controller, 40MIPS, 128k Flash, 8k SRAM, TQFP-100; ki_fp_filters: TQFP*12x12mm*P0.4mm* TQFP*14x14mm*P0.5mm*; Supplier: http://ww1.microchip.com/downloads/en/DeviceDoc/70594C.pdf
pins: 1 RG15 (io), 2 VDD (power), 3 PWM3H/RE5 (io), 4 PWM4L/RE6 (io), 5 PWM4H/RE7 (io), 6 AN16/T2CK/T7CK/RC1 (io), 7 AN17/T3CK/T6CK/RC2 (io), 8 AN18/T4CK/T9CK/RC3 (io), 9 AN19/T5CK/T8CK/RC4 (io), 10 SCK2/CN8/RG6 (io), 11 SDI2/CN9/RG7 (io), 12 SDO2/CN10/RG8 (io), 13 ~{{MCLR}} (in), 14 ~{{SS2}/CN11/RG9} (io), 15 VSS (power) hidden, 16 VDD (power), 17 TMS/RA0 (io), 18 AN20/~{{FLTA}/INT1/RE8} (io), 19 AN21/~{{FLTB}/INT2/RE9} (io), 20 AN5/QEB/CN7/RB5 (io), 21 AN4/QEA/CN6/RB4 (io), 22 AN3/INDX/CN5/RB3 (io), 23 AN2/~{{SS1}/CN4/RB2} (io), 24 PGEC3/AN1/CN3/RB1 (io), 25 PGED3/AN0/CN2/RB0 (io), 26 PGEC1/AN6/OCFA/RB6 (io), 27 PGED1/AN7/RB7 (io), 28 VREF-/RA9 (io), 29 VREF+/RA10 (io), 30 AVDD (power), 31 AVSS (power), 32 AN8/RB8 (io), 33 AN9/RB9 (io), 34 AN10/RB10 (io), 35 AN11/RB11 (io), 36 VSS (power) hidden, 37 VDD (power), 38 TCK/RA1 (io), 39 ~{{U2RTS}/RF13} (io), 40 ~{{U2CTS}/RF12} (io), 41 AN12/RB12 (io), 42 AN13/RB13 (io), 43 AN14/RB14 (io), 44 AN15/OCFB/CN12/RB15 (io), 45 VSS (power) hidden, 46 VDD (power), 47 IC7/~{{U1CTS}/CN20/RD14} (io), 48 IC8/~{{U1RTS}/CN21/RD15} (io), 49 U2RX/CN17/RF4 (io), 50 U2TX/CN18/RF5 (io), 51 U1TX/RF3 (io), 52 U1RX/RF2 (io), 53 SDO1/RF8 (io), 54 SDI1/RF7 (io), 55 SCK1/INT0/RF6 (io), 56 SDA1/RG3 (io), 57 SCL1/RG2 (io), 58 SCL2/RA2 (io), 59 SDA2/RA3 (io), 60 TDI/RA4 (io), 61 TDO/RA5 (io), 62 VDD (power), 63 OSC1/CLKIN/RC12 (io), 64 OSC2/CLKO/RC15 (io), 65 VSS (power) hidden, 66 INT3/RA14 (io), 67 INT4/RA15 (io), 68 IC1/RD8 (io), 69 IC2/RD9 (io), 70 IC3/RD10 (io), 71 IC4/RD11 (io), 72 OC1/RD0 (io), 73 PGED2/SOSCI/CN1/RC13 (io), 74 PGEC2/SOSCO/T1CK/CN0/RC14 (io), 75 VSS (power), 76 OC2/RD1 (io), 77 OC3/RD2 (io), 78 OC4/RD3 (io), 79 IC5/RD12 (io), 80 IC6/CN19/RD13 (io), 81 OC5/CN13/RD4 (io), 82 OC6/CN14/RD5 (io), 83 OC7/CN15/RD6 (io), 84 OC8/UPDN/CN16/RD7 (io), 85 VCAP, 86 VDD (power), 87 C1RX/RF0 (io), 88 C1TX/RF1 (io), 89 C2TX/RG1 (io), 90 C2RX/RG0 (io), 91 AN22/CN22/RA6 (io), 92 AN23/CN23/RA7 (io), 93 PWM1L/RE0 (io), 94 PWM1H/RE1 (io), 95 RG14 (io), 96 RG12 (io), 97 RG13 (io), 98 PWM2L/RE2 (io), 99 PWM2H/RE3 (io), 100 PWM3L/RE4 (io)

## DSPIC33FJ128MC710A
designator *  value DSPIC33FJ128MC710A
ki_keywords: 16-bit Digital Signal Controller Microchip dsPIC; ki_description: High-Performance, 16-bit Digital Signal Controller,40MIPS, 128k Flash, 16k SRAM, TQFP-100; ki_fp_filters: TQFP*12x12mm*P0.4mm* TQFP*14x14mm*P0.5mm*; Supplier: http://ww1.microchip.com/downloads/en/DeviceDoc/70594C.pdf
pins: 1 RG15 (io), 2 VDD (power), 3 PWM3H/RE5 (io), 4 PWM4L/RE6 (io), 5 PWM4H/RE7 (io), 6 AN16/T2CK/T7CK/RC1 (io), 7 AN17/T3CK/T6CK/RC2 (io), 8 AN18/T4CK/T9CK/RC3 (io), 9 AN19/T5CK/T8CK/RC4 (io), 10 SCK2/CN8/RG6 (io), 11 SDI2/CN9/RG7 (io), 12 SDO2/CN10/RG8 (io), 13 ~{{MCLR}} (in), 14 ~{{SS2}/CN11/RG9} (io), 15 VSS (power) hidden, 16 VDD (power), 17 TMS/RA0 (io), 18 AN20/~{{FLTA}/INT1/RE8} (io), 19 AN21/~{{FLTB}/INT2/RE9} (io), 20 AN5/QEB/CN7/RB5 (io), 21 AN4/QEA/CN6/RB4 (io), 22 AN3/INDX/CN5/RB3 (io), 23 AN2/~{{SS1}/CN4/RB2} (io), 24 PGEC3/AN1/CN3/RB1 (io), 25 PGED3/AN0/CN2/RB0 (io), 26 PGEC1/AN6/OCFA/RB6 (io), 27 PGED1/AN7/RB7 (io), 28 VREF-/RA9 (io), 29 VREF+/RA10 (io), 30 AVDD (power), 31 AVSS (power), 32 AN8/RB8 (io), 33 AN9/RB9 (io), 34 AN10/RB10 (io), 35 AN11/RB11 (io), 36 VSS (power) hidden, 37 VDD (power), 38 TCK/RA1 (io), 39 ~{{U2RTS}/RF13} (io), 40 ~{{U2CTS}/RF12} (io), 41 AN12/RB12 (io), 42 AN13/RB13 (io), 43 AN14/RB14 (io), 44 AN15/OCFB/CN12/RB15 (io), 45 VSS (power) hidden, 46 VDD (power), 47 IC7/~{{U1CTS}/CN20/RD14} (io), 48 IC8/~{{U1RTS}/CN21/RD15} (io), 49 U2RX/CN17/RF4 (io), 50 U2TX/CN18/RF5 (io), 51 U1TX/RF3 (io), 52 U1RX/RF2 (io), 53 SDO1/RF8 (io), 54 SDI1/RF7 (io), 55 SCK1/INT0/RF6 (io), 56 SDA1/RG3 (io), 57 SCL1/RG2 (io), 58 SCL2/RA2 (io), 59 SDA2/RA3 (io), 60 TDI/RA4 (io), 61 TDO/RA5 (io), 62 VDD (power), 63 OSC1/CLKIN/RC12 (io), 64 OSC2/CLKO/RC15 (io), 65 VSS (power) hidden, 66 INT3/RA14 (io), 67 INT4/RA15 (io), 68 IC1/RD8 (io), 69 IC2/RD9 (io), 70 IC3/RD10 (io), 71 IC4/RD11 (io), 72 OC1/RD0 (io), 73 PGED2/SOSCI/CN1/RC13 (io), 74 PGEC2/SOSCO/T1CK/CN0/RC14 (io), 75 VSS (power), 76 OC2/RD1 (io), 77 OC3/RD2 (io), 78 OC4/RD3 (io), 79 IC5/RD12 (io), 80 IC6/CN19/RD13 (io), 81 OC5/CN13/RD4 (io), 82 OC6/CN14/RD5 (io), 83 OC7/CN15/RD6 (io), 84 OC8/UPDN/CN16/RD7 (io), 85 VCAP, 86 VDD (power), 87 C1RX/RF0 (io), 88 C1TX/RF1 (io), 89 C2TX/RG1 (io), 90 C2RX/RG0 (io), 91 AN22/CN22/RA6 (io), 92 AN23/CN23/RA7 (io), 93 PWM1L/RE0 (io), 94 PWM1H/RE1 (io), 95 RG14 (io), 96 RG12 (io), 97 RG13 (io), 98 PWM2L/RE2 (io), 99 PWM2H/RE3 (io), 100 PWM3L/RE4 (io)

## DSPIC33FJ128MC804
designator *  value DSPIC33FJ128MC804
ki_keywords: 16-bit Digital Signal Controller Microchip dsPIC Motor Control; ki_description: 40MIPS, 128k Flash, 16k SRAM, ECAN, 16-bit DAC; ki_fp_filters: QFN?44*1EP*8x8mm*P0.65mm* TQFP?44*10x10mm*P0.8mm*; Supplier: http://ww1.microchip.com/downloads/en/DeviceDoc/70291G.pdf
pins: 1 SDA1/RP9/CN21/PMD3/RB9 (io), 2 PWM2H1/RP22/CN18/PMA1/RC6 (io), 3 PWM2L1/RP23/CN17/PMA0/RC7 (io), 4 RP24/CN20/PMA5/RC8 (io), 5 RP25/CN19/PMA6/RC9 (io), 6 VSS (power), 7 VCAP (power), 8 PGED2/PWM1H3/RP10/CN16/PMD2/RB10 (io), 9 PGEC2/PWM1L3/RP11/CN15/PMD1/RB11 (io), 10 PWM1H2/DAC1RP/RP12/CN14/PMD0/RB12 (io), 11 PWM1L2/DAC1RN/RP13/CN13/PMRD/RB13 (io), 12 TMS/PMA10/RA10 (io), 13 TCK/PMA7/RA7 (io), 14 PWM1H1/DAC1LP/RTCC/RP14/CN12/PMWR/RB14 (io), 15 PWM1L/DAC1LN/RP15/CN11/PMCS1/RB15 (io), 16 AVSS (power), 17 AVDD (power), 18 ~{{MCLR}} (in), 19 AN0/VREF+/CN2/RA0 (io), 20 AN1/VREF-/CN3/RA1 (io), 21 PGED1/AN2/C2IN-/RP0/CN4/RB0 (io), 22 PGEC1/AN3/C2IN+/RP1/CN5/RB1 (io), 23 AN4/C1IN-/RP2/CN6/RB2 (io), 24 AN5/C1IN+/RP3/CN7/RB3 (io), 25 AN6/DAC1RM/RP16/CN8/RC0 (io), 26 AN7/DAC1LM/RP17/CN9/RC1 (io), 27 AN8/CVREF/RP18/PMA2/CN10/RC2 (io), 28 VDD (power), 29 VSS (power), 30 OSC1/CLKI/CN30/RA2 (in), 31 OSC2/CLKO/CN29/RA3 (in), 32 TDO/PMA8/RA8 (in), 33 SOSCI/RP4/CN1/RB4 (in), 34 SOSCO/T1CK/CN0/RA4 (in), 35 TDI/PMA9/RA9 (in), 36 RP19/CN28/PMBE/RC3 (in), 37 RP20/CN25/PMA4/RC4 (in), 38 RP21/CN26/PMA3/RC5 (in), 39 VSS (power), 40 VDD (power), 41 PGED3/ASDA1/RP5/CN27/PMD7/RB5 (in), 42 PGEC3/ASCL1/RP6/CN24/PMD6/RB6 (in), 43 INT0/RP7/CN23/PMD5/RB7 (in), 44 SCL1/RP8/CN22/PMD4/RB8 (in)

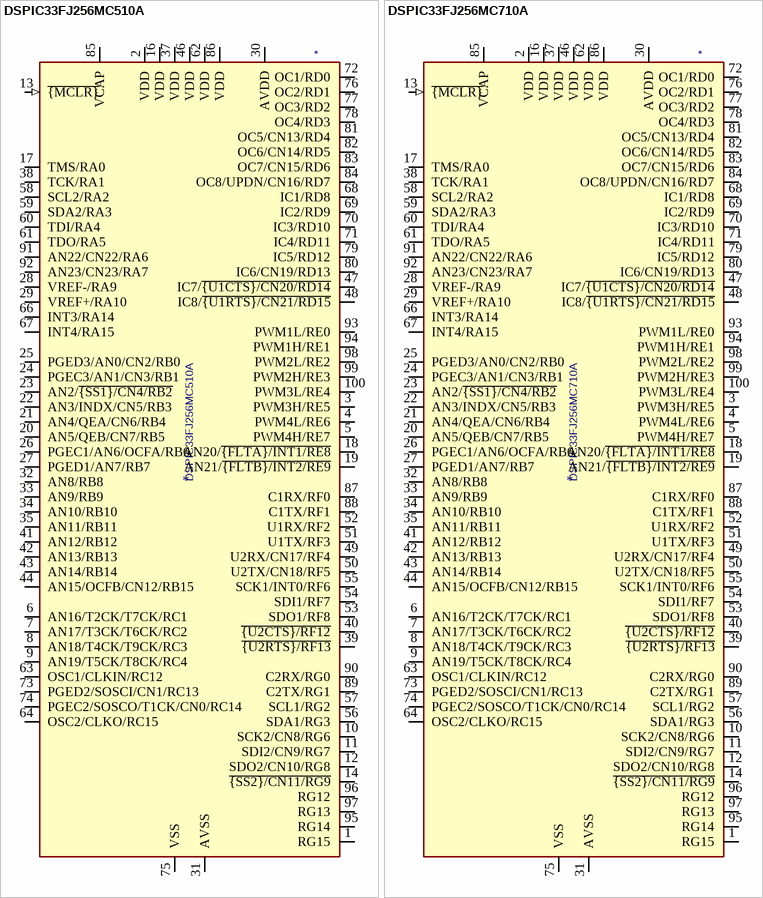
[diagram p3: symbols DSPIC33FJ256MC510A to DSPIC33FJ256MC710A]

## DSPIC33FJ256MC510A
designator *  value DSPIC33FJ256MC510A
ki_keywords: 16-bit Digital Signal Controller Microchip dsPIC; ki_description: High-Performance, 16-bit Digital Signal Controller, 40MIPS, 256k Flash, 16k SRAM, TQFP-100; ki_fp_filters: TQFP*12x12mm*P0.4mm* TQFP*14x14mm*P0.5mm*; Supplier: http://ww1.microchip.com/downloads/en/DeviceDoc/70594C.pdf
pins: 1 RG15 (io), 2 VDD (power), 3 PWM3H/RE5 (io), 4 PWM4L/RE6 (io), 5 PWM4H/RE7 (io), 6 AN16/T2CK/T7CK/RC1 (io), 7 AN17/T3CK/T6CK/RC2 (io), 8 AN18/T4CK/T9CK/RC3 (io), 9 AN19/T5CK/T8CK/RC4 (io), 10 SCK2/CN8/RG6 (io), 11 SDI2/CN9/RG7 (io), 12 SDO2/CN10/RG8 (io), 13 ~{{MCLR}} (in), 14 ~{{SS2}/CN11/RG9} (io), 15 VSS (power) hidden, 16 VDD (power), 17 TMS/RA0 (io), 18 AN20/~{{FLTA}/INT1/RE8} (io), 19 AN21/~{{FLTB}/INT2/RE9} (io), 20 AN5/QEB/CN7/RB5 (io), 21 AN4/QEA/CN6/RB4 (io), 22 AN3/INDX/CN5/RB3 (io), 23 AN2/~{{SS1}/CN4/RB2} (io), 24 PGEC3/AN1/CN3/RB1 (io), 25 PGED3/AN0/CN2/RB0 (io), 26 PGEC1/AN6/OCFA/RB6 (io), 27 PGED1/AN7/RB7 (io), 28 VREF-/RA9 (io), 29 VREF+/RA10 (io), 30 AVDD (power), 31 AVSS (power), 32 AN8/RB8 (io), 33 AN9/RB9 (io), 34 AN10/RB10 (io), 35 AN11/RB11 (io), 36 VSS (power) hidden, 37 VDD (power), 38 TCK/RA1 (io), 39 ~{{U2RTS}/RF13} (io), 40 ~{{U2CTS}/RF12} (io), 41 AN12/RB12 (io), 42 AN13/RB13 (io), 43 AN14/RB14 (io), 44 AN15/OCFB/CN12/RB15 (io), 45 VSS (power) hidden, 46 VDD (power), 47 IC7/~{{U1CTS}/CN20/RD14} (io), 48 IC8/~{{U1RTS}/CN21/RD15} (io), 49 U2RX/CN17/RF4 (io), 50 U2TX/CN18/RF5 (io), 51 U1TX/RF3 (io), 52 U1RX/RF2 (io), 53 SDO1/RF8 (io), 54 SDI1/RF7 (io), 55 SCK1/INT0/RF6 (io), 56 SDA1/RG3 (io), 57 SCL1/RG2 (io), 58 SCL2/RA2 (io), 59 SDA2/RA3 (io), 60 TDI/RA4 (io), 61 TDO/RA5 (io), 62 VDD (power), 63 OSC1/CLKIN/RC12 (io), 64 OSC2/CLKO/RC15 (io), 65 VSS (power) hidden, 66 INT3/RA14 (io), 67 INT4/RA15 (io), 68 IC1/RD8 (io), 69 IC2/RD9 (io), 70 IC3/RD10 (io), 71 IC4/RD11 (io), 72 OC1/RD0 (io), 73 PGED2/SOSCI/CN1/RC13 (io), 74 PGEC2/SOSCO/T1CK/CN0/RC14 (io), 75 VSS (power), 76 OC2/RD1 (io), 77 OC3/RD2 (io), 78 OC4/RD3 (io), 79 IC5/RD12 (io), 80 IC6/CN19/RD13 (io), 81 OC5/CN13/RD4 (io), 82 OC6/CN14/RD5 (io), 83 OC7/CN15/RD6 (io), 84 OC8/UPDN/CN16/RD7 (io), 85 VCAP, 86 VDD (power), 87 C1RX/RF0 (io), 88 C1TX/RF1 (io), 89 C2TX/RG1 (io), 90 C2RX/RG0 (io), 91 AN22/CN22/RA6 (io), 92 AN23/CN23/RA7 (io), 93 PWM1L/RE0 (io), 94 PWM1H/RE1 (io), 95 RG14 (io), 96 RG12 (io), 97 RG13 (io), 98 PWM2L/RE2 (io), 99 PWM2H/RE3 (io), 100 PWM3L/RE4 (io)

## DSPIC33FJ256MC710A
designator *  value DSPIC33FJ256MC710A
ki_keywords: 16-bit Digital Signal Controller Microchip dsPIC; ki_description: High-Performance, 16-bit Digital Signal Controller, 40MIPS, 256k Flash, 30k SRAM, TQFP-100; ki_fp_filters: TQFP*12x12mm*P0.4mm* TQFP*14x14mm*P0.5mm*; Supplier: http://ww1.microchip.com/downloads/en/DeviceDoc/70594C.pdf
pins: 1 RG15 (io), 2 VDD (power), 3 PWM3H/RE5 (io), 4 PWM4L/RE6 (io), 5 PWM4H/RE7 (io), 6 AN16/T2CK/T7CK/RC1 (io), 7 AN17/T3CK/T6CK/RC2 (io), 8 AN18/T4CK/T9CK/RC3 (io), 9 AN19/T5CK/T8CK/RC4 (io), 10 SCK2/CN8/RG6 (io), 11 SDI2/CN9/RG7 (io), 12 SDO2/CN10/RG8 (io), 13 ~{{MCLR}} (in), 14 ~{{SS2}/CN11/RG9} (io), 15 VSS (power) hidden, 16 VDD (power), 17 TMS/RA0 (io), 18 AN20/~{{FLTA}/INT1/RE8} (io), 19 AN21/~{{FLTB}/INT2/RE9} (io), 20 AN5/QEB/CN7/RB5 (io), 21 AN4/QEA/CN6/RB4 (io), 22 AN3/INDX/CN5/RB3 (io), 23 AN2/~{{SS1}/CN4/RB2} (io), 24 PGEC3/AN1/CN3/RB1 (io), 25 PGED3/AN0/CN2/RB0 (io), 26 PGEC1/AN6/OCFA/RB6 (io), 27 PGED1/AN7/RB7 (io), 28 VREF-/RA9 (io), 29 VREF+/RA10 (io), 30 AVDD (power), 31 AVSS (power), 32 AN8/RB8 (io), 33 AN9/RB9 (io), 34 AN10/RB10 (io), 35 AN11/RB11 (io), 36 VSS (power) hidden, 37 VDD (power), 38 TCK/RA1 (io), 39 ~{{U2RTS}/RF13} (io), 40 ~{{U2CTS}/RF12} (io), 41 AN12/RB12 (io), 42 AN13/RB13 (io), 43 AN14/RB14 (io), 44 AN15/OCFB/CN12/RB15 (io), 45 VSS (power) hidden, 46 VDD (power), 47 IC7/~{{U1CTS}/CN20/RD14} (io), 48 IC8/~{{U1RTS}/CN21/RD15} (io), 49 U2RX/CN17/RF4 (io), 50 U2TX/CN18/RF5 (io), 51 U1TX/RF3 (io), 52 U1RX/RF2 (io), 53 SDO1/RF8 (io), 54 SDI1/RF7 (io), 55 SCK1/INT0/RF6 (io), 56 SDA1/RG3 (io), 57 SCL1/RG2 (io), 58 SCL2/RA2 (io), 59 SDA2/RA3 (io), 60 TDI/RA4 (io), 61 TDO/RA5 (io), 62 VDD (power), 63 OSC1/CLKIN/RC12 (io), 64 OSC2/CLKO/RC15 (io), 65 VSS (power) hidden, 66 INT3/RA14 (io), 67 INT4/RA15 (io), 68 IC1/RD8 (io), 69 IC2/RD9 (io), 70 IC3/RD10 (io), 71 IC4/RD11 (io), 72 OC1/RD0 (io), 73 PGED2/SOSCI/CN1/RC13 (io), 74 PGEC2/SOSCO/T1CK/CN0/RC14 (io), 75 VSS (power), 76 OC2/RD1 (io), 77 OC3/RD2 (io), 78 OC4/RD3 (io), 79 IC5/RD12 (io), 80 IC6/CN19/RD13 (io), 81 OC5/CN13/RD4 (io), 82 OC6/CN14/RD5 (io), 83 OC7/CN15/RD6 (io), 84 OC8/UPDN/CN16/RD7 (io), 85 VCAP, 86 VDD (power), 87 C1RX/RF0 (io), 88 C1TX/RF1 (io), 89 C2TX/RG1 (io), 90 C2RX/RG0 (io), 91 AN22/CN22/RA6 (io), 92 AN23/CN23/RA7 (io), 93 PWM1L/RE0 (io), 94 PWM1H/RE1 (io), 95 RG14 (io), 96 RG12 (io), 97 RG13 (io), 98 PWM2L/RE2 (io), 99 PWM2H/RE3 (io), 100 PWM3L/RE4 (io)